# EAGLE library part 61303025721 (library Board_to_Board_Connectors_rev15d)
WR-PHD 2.54mm Dual Socket Header Bottom Entry, 30 Pins =>Code : Con_BTB_SHD_2.54_2_61303025721 <http://katalog.we-online.de/media/images/eican/Con_BTB_SHD_2.54_2_6130xx25721_pf2.jpg> Details see: http://katalog.we-online.de/en/em/613_0xx_257_21 Created 2014-05-30, Karrer Zheng 2014 (C) Würth Elektronik
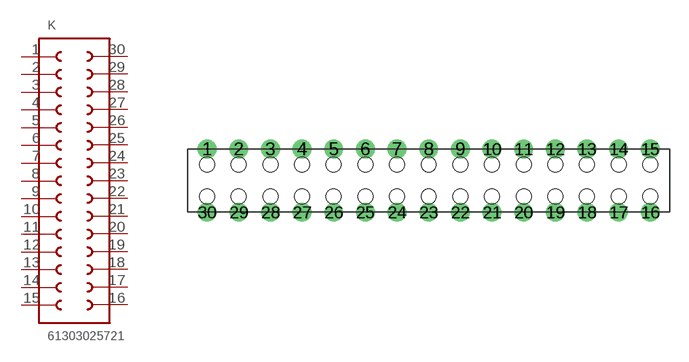
[diagram p164: symbol with the pads of 61303025721; footprint 61303025721]

Designator prefix K

## 61303025721  [61303025721]
1  1  pas
2  2  pas
3  3  pas
4  4  pas
5  5  pas
6  6  pas
7  7  pas
8  8  pas
9  9  pas
10  10  pas
11  11  pas
12  12  pas
13  13  pas
14  14  pas
15  15  pas
16  16  pas
17  17  pas
18  18  pas
19  19  pas
20  20  pas
21  21  pas
22  22  pas
23  23  pas
24  24  pas
25  25  pas
26  26  pas
27  27  pas
28  28  pas
29  29  pas
30  30  pas

## Footprint 61303025721 (pad centres in mm)
WR-PHD 2.54mm Dual Socket Header Bottom Entry, 30 Pins
drill 1: 1 -30.48,0; 2 -27.94,0; 3 -25.4,0; 4 -22.86,0; 5 -20.32,0; 6 -17.78,0; 7 -15.24,0; 8 -12.7,0; 9 -10.16,0; 10 -7.62,0; 11 -5.08,0; 12 -2.54,0; 13 0,0; 14 2.54,0; 15 5.08,0; 16 5.08,-5.08; 17 2.54,-5.08; 18 0,-5.08; 19 -2.54,-5.08; 20 -5.08,-5.08; 21 -7.62,-5.08; 22 -10.16,-5.08; 23 -12.7,-5.08; 24 -15.24,-5.08; 25 -17.78,-5.08; 26 -20.32,-5.08; 27 -22.86,-5.08; 28 -25.4,-5.08; 29 -27.94,-5.08; 30 -30.48,-5.08
hole 1.2 at -30.48,-1.27
hole 1.2 at -27.94,-1.27
hole 1.2 at -25.4,-1.27
hole 1.2 at -22.86,-1.27
hole 1.2 at -20.32,-1.27
hole 1.2 at -17.78,-1.27
hole 1.2 at -15.24,-1.27
hole 1.2 at -12.7,-1.27
hole 1.2 at -10.16,-1.27
hole 1.2 at -7.62,-1.27
hole 1.2 at -5.08,-1.27
hole 1.2 at -2.54,-1.27
hole 1.2 at 0,-1.27
hole 1.2 at -30.48,-3.81
hole 1.2 at -27.94,-3.81
hole 1.2 at -25.4,-3.81
hole 1.2 at -22.86,-3.81
hole 1.2 at -20.32,-3.81
hole 1.2 at -17.78,-3.81
hole 1.2 at -15.24,-3.81
hole 1.2 at -12.7,-3.81
hole 1.2 at -10.16,-3.81
hole 1.2 at -7.62,-3.81
hole 1.2 at -5.08,-3.81
hole 1.2 at -2.54,-3.81
hole 1.2 at 0,-3.81
hole 1.2 at 2.54,-1.27
hole 1.2 at 5.08,-1.27
hole 1.2 at 2.54,-3.81
hole 1.2 at 5.08,-3.81